# Altium footprint library 栅栏式端子.PcbLib: 1 footprints
Each footprint in its own frame and in the unit in brackets; x right, y up, seen from the top. Pads: shape width x height; smd on the part's side, far side on the other; paste and mask are expansions set on the pad; w line width, h text height; cw(c..) or ccw(c..) is an arc to the next point about the centre after c.
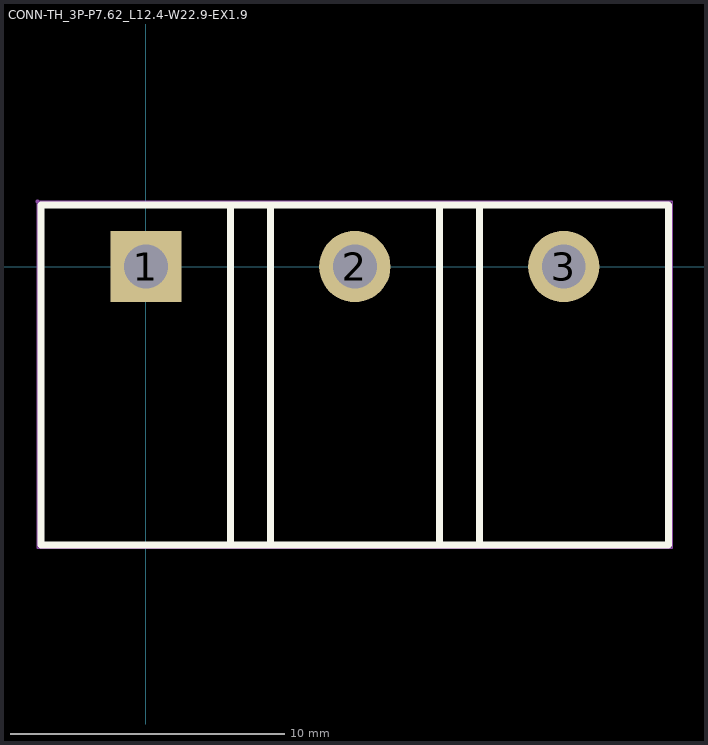
[diagram p0: the footprint, top view; thin cyan lines are the x and y axes]

## CONN-TH_3P-P7.62_L12.4-W22.9-EX1.9 [mm]
pads (3):
  rect 2.6x2.6 hole 1.6: 1(0,0)
  round 2.6 hole 1.6: 2(7.62,0) 3(15.24,0)
Top Overlay:
  lines w0.254: -3.83,-10.15 -3.83,2.25 19.07,2.25 19.07,-10.15 -3.83,-10.15 ; 3.09,-10.15 3.09,2.25 4.54,2.25 4.54,-10.15 3.09,-10.15 ; 10.71,-10.15 10.71,2.25 12.16,2.25 12.16,-10.15 10.71,-10.15
Mechanical 15:
  region: 15.94,0 15.94,0.092 15.892,0.27 15.8,0.43 15.67,0.56 15.51,0.652 15.332,0.7 15.148,0.7 14.97,0.652 14.81,0.56 14.68,0.43 14.588,0.27 14.54,0.092 14.54,0 14.54,-0.092 14.588,-0.27 14.68,-0.43 14.81,-0.56 14.97,-0.652 15.148,-0.7 15.332,-0.7 15.51,-0.652 15.67,-0.56 15.8,-0.43 15.892,-0.27 15.94,-0.092 15.94,0
  region: 8.32,0 8.32,0.092 8.272,0.27 8.18,0.43 8.05,0.56 7.89,0.652 7.712,0.7 7.528,0.7 7.35,0.652 7.19,0.56 7.06,0.43 6.968,0.27 6.92,0.092 6.92,0 6.92,-0.092 6.968,-0.27 7.06,-0.43 7.19,-0.56 7.35,-0.652 7.528,-0.7 7.712,-0.7 7.89,-0.652 8.05,-0.56 8.18,-0.43 8.272,-0.27 8.32,-0.092 8.32,0
  region: 0.7,0 0.7,0.092 0.652,0.27 0.56,0.43 0.43,0.56 0.27,0.652 0.092,0.7 -0.092,0.7 -0.27,0.652 -0.43,0.56 -0.56,0.43 -0.652,0.27 -0.7,0.092 -0.7,0 -0.7,-0.092 -0.652,-0.27 -0.56,-0.43 -0.43,-0.56 -0.27,-0.652 -0.092,-0.7 0.092,-0.7 0.27,-0.652 0.43,-0.56 0.56,-0.43 0.652,-0.27 0.7,-0.092 0.7,0
  region: -3.897,2.377 -3.897,2.402 -3.932,2.437 -3.982,2.437 -4.017,2.402 -4.017,2.377 -4.017,2.352 -3.982,2.317 -3.932,2.317 -3.897,2.352 -3.897,2.377
  lines w0.051: -3.957,-10.277 -3.957,2.377 19.197,2.377 19.197,-10.277 -3.957,-10.277